# EAGLE library part 74ACTQ08SC (library Fairchild_By_element14_Batch_1)
Quiet Series. Quad 2-Input AND Gate
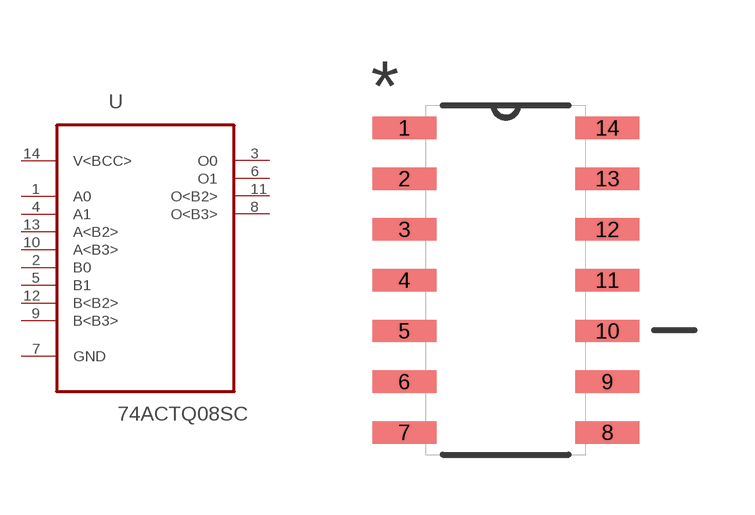
[diagram p53: symbol with the pads of SOIC127P600X175-14N; footprint SOIC127P600X175-14N]

Designator prefix U

## 74ACTQ08SC (MPN: 74ACTQ08SC; OC_FARNELL: -; OC_NEWARK: 78K6166; PACKAGE: SOIC-14; SUPPLIER: Fairchild)  [SOIC127P600X175-14N]
1  A0  in
2  B0  in
3  O0  out
4  A1  in
5  B1  in
6  O1  out
7  GND  pas
8  O<B3>  out
9  B<B3>  in
10  A<B3>  in
11  O<B2>  out
12  B<B2>  in
13  A<B2>  in
14  V<BCC>  pwr

## Footprint SOIC127P600X175-14N (pad centres in mm)
smd 1.6 x 0.559: 1 -2.54,3.81; 2 -2.54,2.54; 3 -2.54,1.27; 4 -2.54,0; 5 -2.54,-1.27; 6 -2.54,-2.54; 7 -2.54,-3.81; 8 2.54,-3.81; 9 2.54,-2.54; 10 2.54,-1.27; 11 2.54,0; 12 2.54,1.27; 13 2.54,2.54; 14 2.54,3.81